# Altium integrated library ALTIUM-WP-SMBU_BLIND-HOLE-rev17a.IntLib: 22 symbols
Pins are listed as number, name and electrical type; pins without a type are passive.

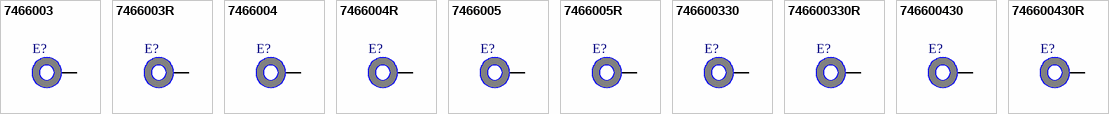
[diagram p0: symbols 7466003 to 746600430R]

## 7466003
designator E?
REDCUBE SMD with internal through-hole thread WP-SMBU, M3 - 6 mm; Part Number: 7466003; Outer Diameter: 7 mm; Thread Length: 6 mm; ComponentLink1Description: Manufacturer; ComponentLink1URL: http://www.we-online.de; ComponentLink2Description: Datasheet; ComponentLink2URL: http://katalog.we-online.de/em/datasheet/7466003.pdf; Published Date: March  2017; Publisher: Wurth Elektronik; Height: 5 mm; Thread: M3
footprint 7466003
pins: 1

## 7466003R
designator E?
REDCUBE SMD with internal through-hole thread WP-SMBU, M3 - 6 mm; Part Number: 7466003R; Outer Diameter: 7 mm; Thread Length: 6 mm; ComponentLink1Description: Manufacturer; ComponentLink1URL: http://www.we-online.de; ComponentLink2Description: Datasheet; ComponentLink2URL: http://katalog.we-online.de/em/datasheet/7466003R.pdf; Published Date: March  2017; Publisher: Wurth Elektronik; Height: 5 mm; Thread: M3
footprint 7466003 (SMD with internal through-hole thread, M3-6mm)
pins: 1

## 7466004
designator E?
REDCUBE SMD with internal through-hole thread WP-SMBU, M4 - 6 mm; Part Number: 7466004; Outer Diameter: 7 mm; Thread Length: 6 mm; ComponentLink1Description: Manufacturer; ComponentLink1URL: http://www.we-online.de; ComponentLink2Description: Datasheet; ComponentLink2URL: http://katalog.we-online.de/em/datasheet/7466004.pdf; Published Date: March  2017; Publisher: Wurth Elektronik; Height: 5 mm; Thread: M4
footprint 7466004
pins: 1

## 7466004R
designator E?
REDCUBE SMD with internal through-hole thread WP-SMBU, M4 - 6 mm; Part Number: 7466004R; Outer Diameter: 7 mm; Thread Length: 6 mm; ComponentLink1Description: Manufacturer; ComponentLink1URL: http://www.we-online.de; ComponentLink2Description: Datasheet; ComponentLink2URL: http://katalog.we-online.de/em/datasheet/7466004R.pdf; Published Date: March  2017; Publisher: Wurth Elektronik; Height: 5 mm; Thread: M4
footprint 7466004
pins: 1

## 7466005
designator E?
REDCUBE SMD with internal through-hole thread WP-SMBU, M5 - 6 mm; Part Number: 7466005; Outer Diameter: 9 mm; Thread Length: 6 mm; ComponentLink1Description: Manufacturer; ComponentLink1URL: http://www.we-online.de; ComponentLink2Description: Datasheet; ComponentLink2URL: http://katalog.we-online.de/em/datasheet/7466005.pdf; Published Date: March  2017; Publisher: Wurth Elektronik; Height: 5 mm; Thread: M5
footprint 7466005
pins: 1

## 7466005R
designator E?
REDCUBE SMD with internal through-hole thread WP-SMBU, M5 - 6 mm; Part Number: 7466005R; Outer Diameter: 9 mm; Thread Length: 6 mm; ComponentLink1Description: Manufacturer; ComponentLink1URL: http://www.we-online.de; ComponentLink2Description: Datasheet; ComponentLink2URL: http://katalog.we-online.de/em/datasheet/7466005R.pdf; Published Date: March  2017; Publisher: Wurth Elektronik; Height: 5 mm; Thread: M5
footprint 7466005
pins: 1

## 746600330
designator E?
REDCUBE SMD with internal through-hole thread WP-SMBU, M3 - 4 mm; Part Number: 746600330; Outer Diameter: 7 mm; Thread Length: 4 mm; ComponentLink1Description: Manufacturer; ComponentLink1URL: http://www.we-online.de; ComponentLink2Description: Datasheet; ComponentLink2URL: http://katalog.we-online.de/em/datasheet/746600330.pdf; Published Date: March  2017; Publisher: Wurth Elektronik; Height: 3 mm; Thread: M3
footprint 746600330
pins: 1

## 746600330R
designator E?
REDCUBE SMD with internal through-hole thread WP-SMBU, M3 - 4 mm; Part Number: 746600330R; Outer Diameter: 7 mm; Thread Length: 4 mm; ComponentLink1Description: Manufacturer; ComponentLink1URL: http://www.we-online.de; ComponentLink2Description: Datasheet; ComponentLink2URL: http://katalog.we-online.de/em/datasheet/746600330R.pdf; Published Date: March  2017; Publisher: Wurth Elektronik; Height: 3 mm; Thread: M3
footprint 746600330
pins: 1

## 746600430
designator E?
REDCUBE SMD with internal through-hole thread WP-SMBU, M4 - 4 mm; Part Number: 746600430; Outer Diameter: 7 mm; Thread Length: 4 mm; ComponentLink1Description: Manufacturer; ComponentLink1URL: http://www.we-online.de; ComponentLink2Description: Datasheet; ComponentLink2URL: http://katalog.we-online.de/em/datasheet/746600430.pdf; Published Date: March  2017; Publisher: Wurth Elektronik; Height: 3 mm; Thread: M4
footprint 746600430
pins: 1

## 746600430R
designator E?
REDCUBE SMD with internal through-hole thread WP-SMBU, M4 - 4 mm; Part Number: 746600430R; Outer Diameter: 7 mm; Thread Length: 4 mm; ComponentLink1Description: Manufacturer; ComponentLink1URL: http://www.we-online.de; ComponentLink2Description: Datasheet; ComponentLink2URL: http://katalog.we-online.de/em/datasheet/746600430R.pdf; Published Date: March  2017; Publisher: Wurth Elektronik; Height: 3 mm; Thread: M4
footprint 746600430
pins: 1


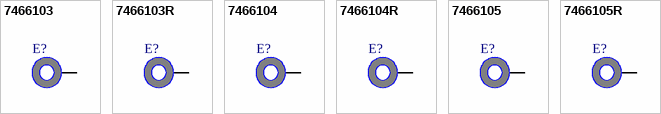
[diagram p1: symbols 7466103 to 7466105R]

## 7466103
designator E?
REDCUBE SMD with internal blind-hole thread with Pin WP-SMBU, M3 - 4 mm; Part Number: 7466103; Outer Diameter: 7 mm; Thread Length: 4 mm; ComponentLink1Description: Manufacturer; ComponentLink1URL: http://www.we-online.de; ComponentLink2Description: Datasheet; ComponentLink2URL: http://katalog.we-online.de/em/datasheet/7466103.pdf; Published Date: March  2017; Publisher: Wurth Elektronik; Height: 7 mm; Thread: M3
footprint 7466103
pins: 1

## 7466103R
designator E?
REDCUBE SMD with internal blind-hole thread with Pin WP-SMBU, M3 - 4 mm; Part Number: 7466103R; Outer Diameter: 7 mm; Thread Length: 4 mm; ComponentLink1Description: Manufacturer; ComponentLink1URL: http://www.we-online.de; ComponentLink2Description: Datasheet; ComponentLink2URL: http://katalog.we-online.de/em/datasheet/7466103R.pdf; Published Date: March  2017; Publisher: Wurth Elektronik; Height: 7 mm; Thread: M3
footprint 7466103
pins: 1

## 7466104
designator E?
REDCUBE SMD with internal blind-hole thread with Pin WP-SMBU, M4 - 4 mm; Part Number: 7466104; Outer Diameter: 7 mm; Thread Length: 4 mm; ComponentLink1Description: Manufacturer; ComponentLink1URL: http://www.we-online.de; ComponentLink2Description: Datasheet; ComponentLink2URL: http://katalog.we-online.de/em/datasheet/7466104.pdf; Published Date: March  2017; Publisher: Wurth Elektronik; Height: 7 mm; Thread: M4
footprint 7466104
pins: 1

## 7466104R
designator E?
REDCUBE SMD with internal blind-hole thread with Pin WP-SMBU, M4 - 4 mm; Part Number: 7466104R; Outer Diameter: 7 mm; Thread Length: 4 mm; ComponentLink1Description: Manufacturer; ComponentLink1URL: http://www.we-online.de; ComponentLink2Description: Datasheet; ComponentLink2URL: http://katalog.we-online.de/em/datasheet/7466104R.pdf; Published Date: March  2017; Publisher: Wurth Elektronik; Height: 7 mm; Thread: M4
footprint 7466104
pins: 1

## 7466105
designator E?
REDCUBE SMD with internal blind-hole thread with Pin WP-SMBU, M5 - 4 mm; Part Number: 7466105; Outer Diameter: 9 mm; Thread Length: 4 mm; ComponentLink1Description: Manufacturer; ComponentLink1URL: http://www.we-online.de; ComponentLink2Description: Datasheet; ComponentLink2URL: http://katalog.we-online.de/em/datasheet/7466105.pdf; Published Date: March  2017; Publisher: Wurth Elektronik; Height: 7 mm; Thread: M5
footprint 7466105
pins: 1

## 7466105R
designator E?
REDCUBE SMD with internal blind-hole thread with Pin WP-SMBU, M5 - 4 mm; Part Number: 7466105R; Outer Diameter: 9 mm; Thread Length: 4 mm; ComponentLink1Description: Manufacturer; ComponentLink1URL: http://www.we-online.de; ComponentLink2Description: Datasheet; ComponentLink2URL: http://katalog.we-online.de/em/datasheet/7466105R.pdf; Published Date: March  2017; Publisher: Wurth Elektronik; Height: 7 mm; Thread: M5
footprint 7466105
pins: 1


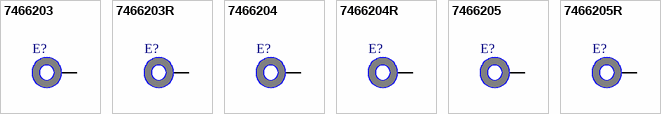
[diagram p2: symbols 7466203 to 7466205R]

## 7466203
designator E?
REDCUBE SMD with internal blind-hole thread WP-SMBU, M3 - 4 mm; Part Number: 7466203; Outer Diameter: 7 mm; Thread Length: 4 mm; ComponentLink1Description: Manufacturer; ComponentLink1URL: http://www.we-online.de; ComponentLink2Description: Datasheet; ComponentLink2URL: http://katalog.we-online.de/em/datasheet/7466203.pdf; Published Date: March  2017; Publisher: Wurth Elektronik; Height: 7 mm; Thread: M3
footprint 7466203
pins: 1

## 7466203R
designator E?
REDCUBE SMD with internal blind-hole thread WP-SMBU, M3 - 4 mm; Part Number: 7466203R; Outer Diameter: 7 mm; Thread Length: 4 mm; ComponentLink1Description: Manufacturer; ComponentLink1URL: http://www.we-online.de; ComponentLink2Description: Datasheet; ComponentLink2URL: http://katalog.we-online.de/em/datasheet/7466203R.pdf; Published Date: March  2017; Publisher: Wurth Elektronik; Height: 7 mm; Thread: M3
footprint 7466203
pins: 1

## 7466204
designator E?
REDCUBE SMD with internal blind-hole thread WP-SMBU, M4 - 4 mm; Part Number: 7466204; Outer Diameter: 7 mm; Thread Length: 4 mm; ComponentLink1Description: Manufacturer; ComponentLink1URL: http://www.we-online.de; ComponentLink2Description: Datasheet; ComponentLink2URL: http://katalog.we-online.de/em/datasheet/7466204.pdf; Published Date: March  2017; Publisher: Wurth Elektronik; Height: 7 mm; Thread: M4
footprint 7466204
pins: 1

## 7466204R
designator E?
REDCUBE SMD with internal blind-hole thread WP-SMBU, M4 - 4 mm; Part Number: 7466204R; Outer Diameter: 7 mm; Thread Length: 4 mm; ComponentLink1Description: Manufacturer; ComponentLink1URL: http://www.we-online.de; ComponentLink2Description: Datasheet; ComponentLink2URL: http://katalog.we-online.de/em/datasheet/7466204R.pdf; Published Date: March  2017; Publisher: Wurth Elektronik; Height: 7 mm; Thread: M4
footprint 7466204
pins: 1

## 7466205
designator E?
REDCUBE SMD with internal blind-hole thread WP-SMBU, M5 - 4 mm; Part Number: 7466205; Outer Diameter: 9 mm; Thread Length: 4 mm; ComponentLink1Description: Manufacturer; ComponentLink1URL: http://www.we-online.de; ComponentLink2Description: Datasheet; ComponentLink2URL: http://katalog.we-online.de/em/datasheet/7466205.pdf; Published Date: March  2017; Publisher: Wurth Elektronik; Height: 7 mm; Thread: M5
footprint 7466205
pins: 1

## 7466205R
designator E?
REDCUBE SMD with internal blind-hole thread WP-SMBU, M5 - 4 mm; Part Number: 7466205R; Outer Diameter: 9 mm; Thread Length: 4 mm; ComponentLink1Description: Manufacturer; ComponentLink1URL: http://www.we-online.de; ComponentLink2Description: Datasheet; ComponentLink2URL: http://katalog.we-online.de/em/datasheet/7466205R.pdf; Published Date: March  2017; Publisher: Wurth Elektronik; Height: 7 mm; Thread: M5
footprint 7466205
pins: 1